# EAGLE library part 615064243321 (library USB_c_conn)
WR-MJ Horizontal Shielded 2 x 4 Stacked Port with EMI Panel Finger 8P8C Modular Jack Tab Up & Down, 64 Pins=>Code : Con-I-O_MJ-H_Shielded_Up-Down_615064243321 <http://katalog.we-online.de/media/images/eican/Con-I-O_MJ-H_Shielded_Up-Down_615064243321_pf2.jpg> Details see: http://katalog.we-online.de/en/em/615_064_243_321 Created 2014-07-10, Karrer Zheng 2014 (C) Würth Elektronik
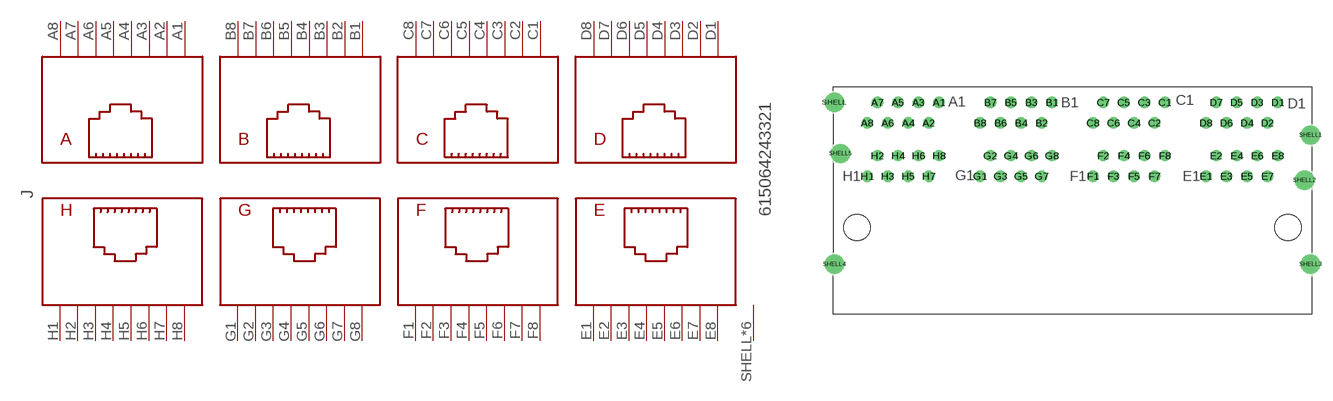
[diagram p133: symbol with the pads of 615064243321; footprint 615064243321]

Designator prefix J

## 615064243321  [615064243321]
A1  A8  pas
A2  A7  pas
A3  A6  pas
A4  A5  pas
A5  A4  pas
A6  A3  pas
A7  A2  pas
A8  A1  pas
B1  B8  pas
B2  B7  pas
B3  B6  pas
B4  B5  pas
B5  B4  pas
B6  B3  pas
B7  B2  pas
B8  B1  pas
C1  C8  pas
C2  C7  pas
C3  C6  pas
C4  C5  pas
C5  C4  pas
C6  C3  pas
C7  C2  pas
C8  C1  pas
D1  D8  pas
D2  D7  pas
D3  D6  pas
D4  D5  pas
D5  D4  pas
D6  D3  pas
D7  D2  pas
D8  D1  pas
E1  E1  pas
E2  E2  pas
E3  E3  pas
E4  E4  pas
E5  E5  pas
E6  E6  pas
E7  E7  pas
E8  E8  pas
F1  F1  pas
F2  F2  pas
F3  F3  pas
F4  F4  pas
F5  F5  pas
F6  F6  pas
F7  F7  pas
F8  F8  pas
G1  G1  pas
G2  G2  pas
G3  G3  pas
G4  G4  pas
G5  G5  pas
G6  G6  pas
G7  G7  pas
G8  G8  pas
H1  H1  pas
H2  H2  pas
H3  H3  pas
H4  H4  pas
H5  H5  pas
H6  H6  pas
H7  H7  pas
H8  H8  pas
SHELL  SHIELD  pas
SHELL1  SHIELD  pas
SHELL2  SHIELD  pas
SHELL3  SHIELD  pas
SHELL4  SHIELD  pas
SHELL5  SHIELD  pas

## Footprint 615064243321 (pad centres in mm)
WR-MJ Horizontal Shielded 2 x 4 Stacked Port with EMI Panel Finger 8P8C Modular Jack Tab Up & Down, 64 Pins
drill 0.9: A1 -16.51,15.49; A2 -17.78,12.95; A3 -19.05,15.49; A4 -20.32,12.95; A5 -21.59,15.49; A6 -22.86,12.95; A7 -24.13,15.49; A8 -25.4,12.95; B1 -2.54,15.49; B2 -3.81,12.95; B3 -5.08,15.49; B4 -6.35,12.95; B5 -7.62,15.49; B6 -8.89,12.95; B7 -10.16,15.49; B8 -11.43,12.95; C1 11.43,15.49; C2 10.16,12.95; C3 8.89,15.49; C4 7.62,12.95; C5 6.35,15.49; C6 5.08,12.95; C7 3.81,15.49; C8 2.54,12.95; D1 25.4,15.49; D2 24.13,12.95; D3 22.86,15.49; D4 21.59,12.95; D5 20.32,15.49; D6 19.05,12.95; D7 17.78,15.49; D8 16.51,12.95; E1 16.51,6.35; E2 17.78,8.89; E3 19.05,6.35; E4 20.32,8.89; E5 21.59,6.35; E6 22.86,8.89; E7 24.13,6.35; E8 25.4,8.89; F1 2.54,6.35; F2 3.81,8.89; F3 5.08,6.35; F4 6.35,8.89; F5 7.62,6.35; F6 8.89,8.89; F7 10.16,6.35; F8 11.43,8.89; G1 -11.43,6.35; G2 -10.16,8.89; G3 -8.89,6.35; G4 -7.62,8.89; G5 -6.35,6.35; G6 -5.08,8.89; G7 -3.81,6.35; G8 -2.54,8.89; H1 -25.4,6.35; H2 -24.13,8.89; H3 -22.86,6.35; H4 -21.59,8.89; H5 -20.32,6.35; H6 -19.05,8.89; H7 -17.78,6.35; H8 -16.51,8.89
drill 1.6: SHELL -29.47,15.5; SHELL1 29.47,11.43; SHELL2 28.71,5.84; SHELL3 29.47,-4.57; SHELL4 -29.47,-4.57; SHELL5 -28.71,9.15
hole 3.25 at -26.67,0
hole 3.25 at 26.67,0